# EAGLE library part MCP7384XX (library QFN)
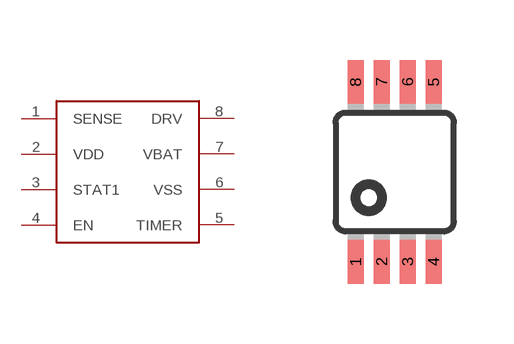
[diagram p29: symbol with the pads of MSOP8; footprint MSOP8]

Designator prefix -

## MCP7384XX  [MSOP8]
1  SENSE
2  VDD
3  STAT1
4  EN
5  TIMER
6  VSS
7  VBAT
8  DRV

## Footprint MSOP8 (pad centres in mm)
8M, 8-Lead, 0.118" Wide, Miniature Small Outline Package MSOP 8M-Package doc1097.pdf
smd 0.4 x 1.1: 1 -0.975,-2.25; 2 -0.325,-2.25; 3 0.325,-2.25; 4 0.975,-2.25; 5 0.975,2.25; 6 0.325,2.25; 7 -0.325,2.25; 8 -0.975,2.25